# Altium schematic symbol library DRV8833_Module.SchLib: 1 symbol
Pins are listed as number, name and electrical type; pins without a type are passive.

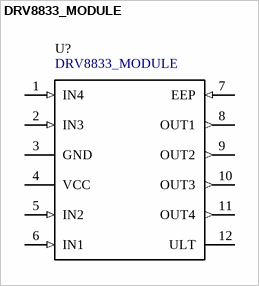
[diagram p0: symbol DRV8833_MODULE]

## DRV8833_MODULE
designator U?
DRV8833 12-pin module, P2.54 / row15.24; numbering follows Pin_Mapping.csv and is not IC numbering.; Pitch: 2.54 mm; RowSpacing: 15.24 mm (supplied STEP); ModuleOutline: 18.6 x 16.75 mm (supplied STEP); EEP: nSLEEP input; active low; ULT: nFAULT open-drain output; active low; Mounting: Direct male header, 2.5 mm model Z offset; SupplierURL: https://www.javanelec.com/shop/product/34544/non-brand/drv8833-module; Datasheet: https://www.ti.com/lit/ds/symlink/drv8833.pdf
footprint DRV8833_MODULE_2X6_P254_R1524
pins: 1 IN4 (in), 2 IN3 (in), 3 GND (power), 4 VCC (power), 5 IN2 (in), 6 IN1 (in), 7 EEP (in) "nSLEEP", 8 OUT1 (out), 9 OUT2 (out), 10 OUT3 (out), 11 OUT4 (out), 12 ULT (oc) "nFAULT"